# EAGLE library part CON-USB-M (library dp_devices)
USB Male connector
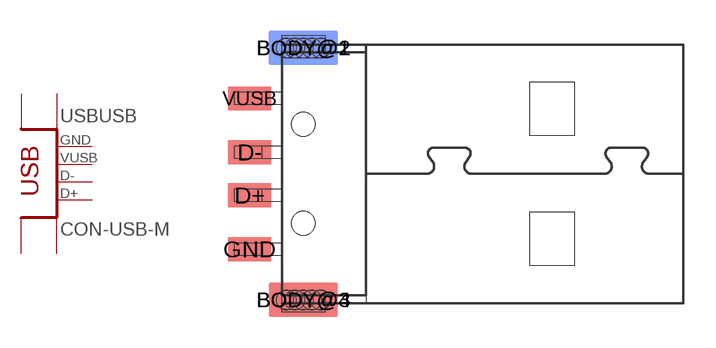
[diagram p4: symbol with the pads of CONN_USB_A_MALE; footprint CONN_USB_A_MALE]

Designator prefix USB; gates USB=CONN_USB_4P BODY=USB_BODY_PINS2

## CON-USB-M-A  [CONN_USB_A_MALE]
BODY@1  BODY:BODY  hiz
BODY@2  BODY:BODY  hiz
BODY@3  BODY:BODY  hiz
BODY@4  BODY:BODY  hiz
D+  USB:D+
D-  USB:D-
GND  USB:GND
VUSB  USB:VUSB

## Footprint CONN_USB_A_MALE (pad centres in mm)
SMD mount USB Type A Male
smd 3.2 x 1.6: BODY@1 0,5.85; BODY@3 0,-5.85
smd 3.2 x 1.6 bottom: BODY@2 0,5.85; BODY@4 0,-5.85
smd 1.99 x 1.1: D+ -2.5,-1; D- -2.5,1; GND -2.5,-3.5; VUSB -2.5,3.5
hole 1.1 at 0,2.3
hole 1.1 at 0,-2.3
hole 0.9 at -0.8,5.85
hole 0.9 at -0.4,5.85
hole 0.9 at 0,5.85
hole 0.9 at 0.4,5.85
hole 0.9 at 0.8,5.85
hole 0.9 at -0.8,-5.85
hole 0.9 at -0.4,-5.85
hole 0.9 at 0,-5.85
hole 0.9 at 0.4,-5.85
hole 0.9 at 0.8,-5.85